# Altium integrated library Altera Cyclone III.IntLib: 225 symbols (part 44 of 50)

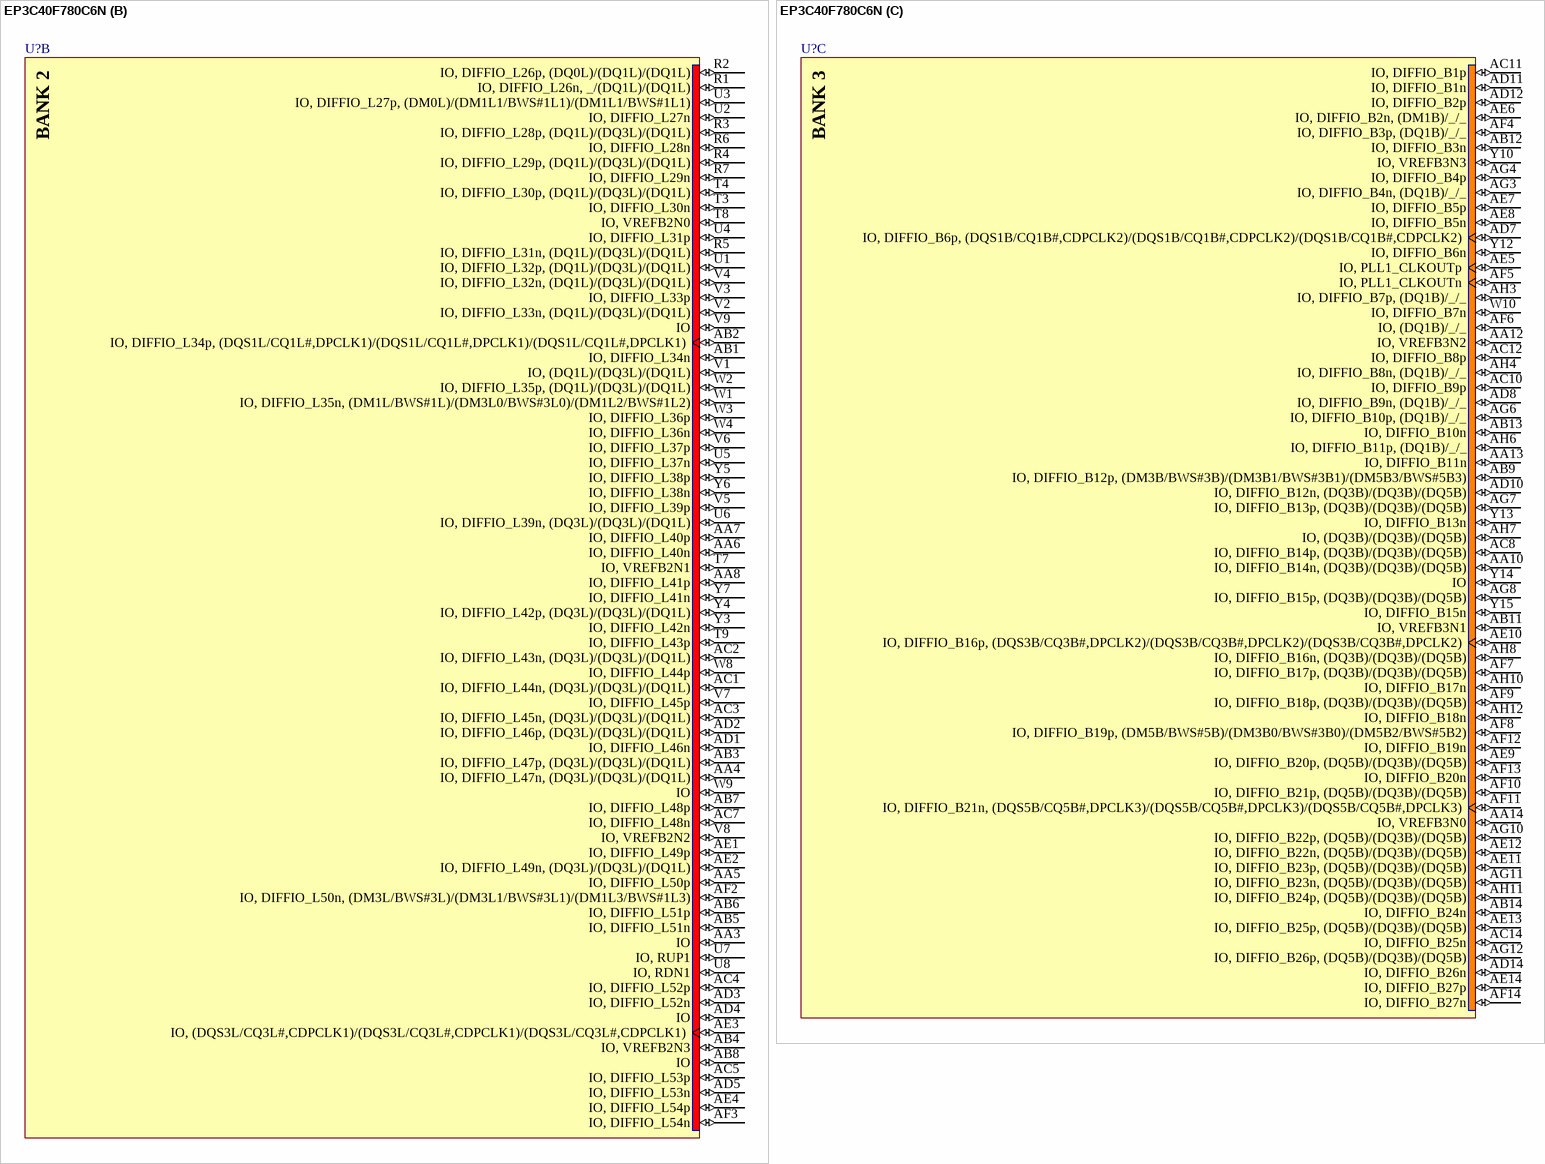
[diagram p210: symbol EP3C40F780C6N]

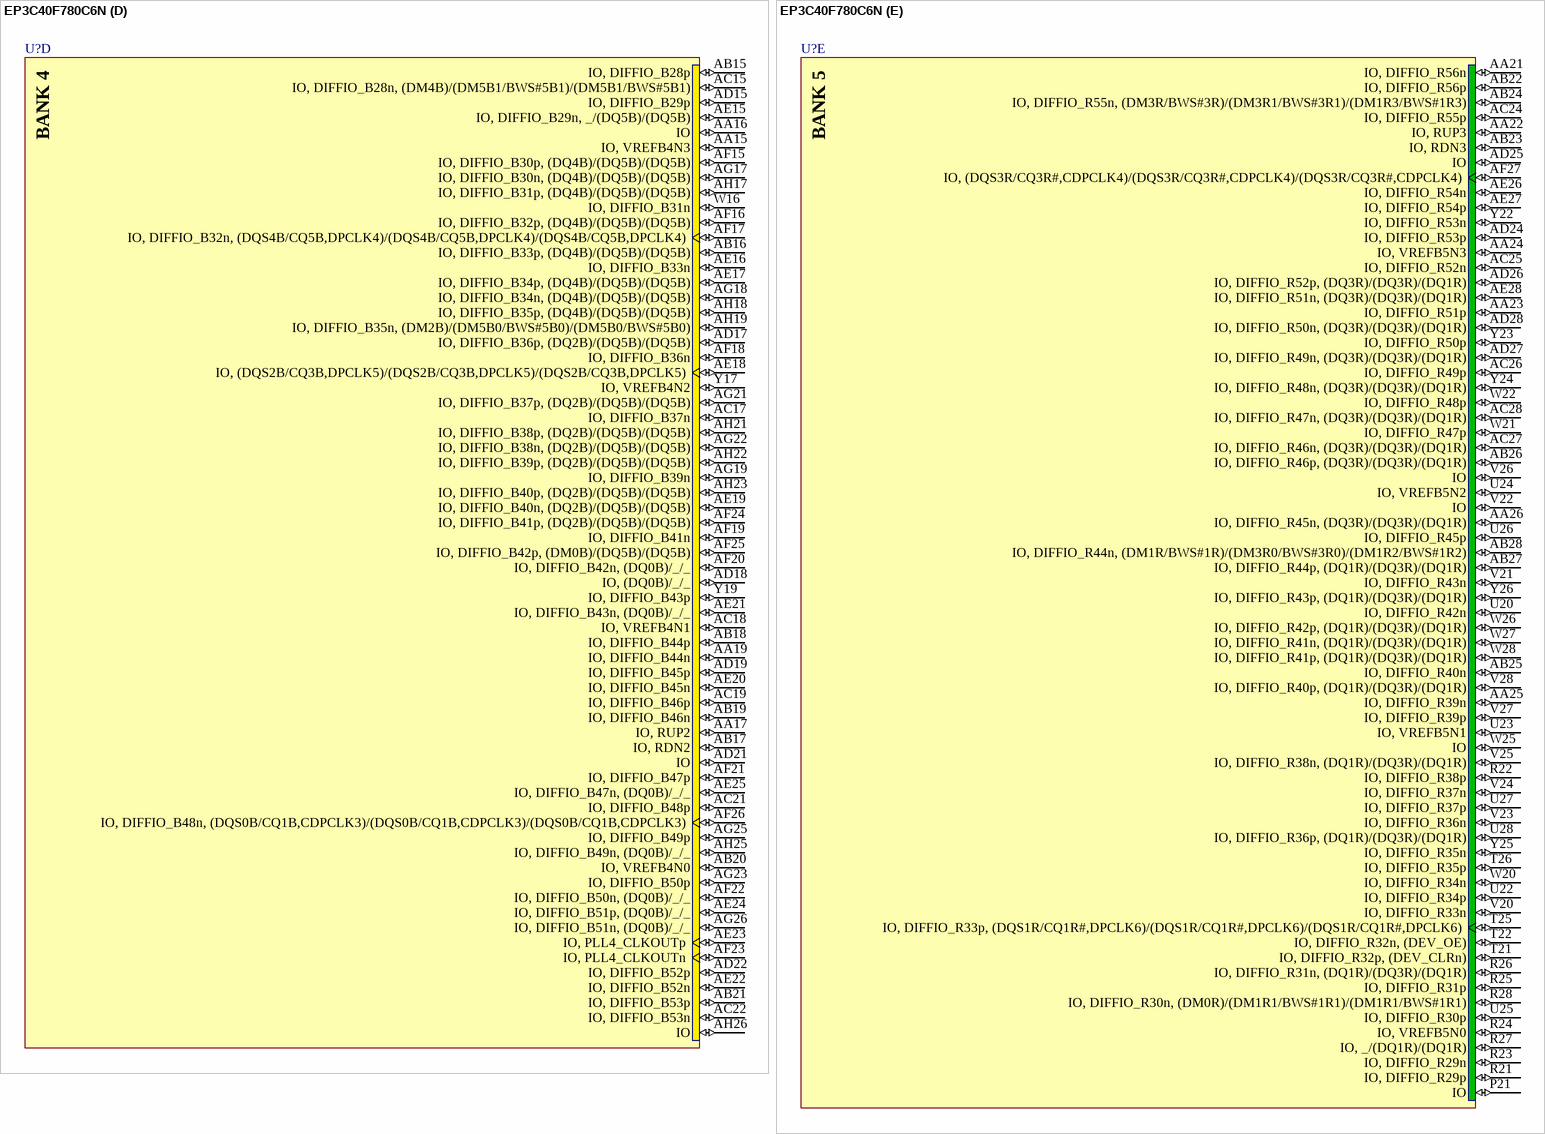
[diagram p211: symbol EP3C40F780C6N]

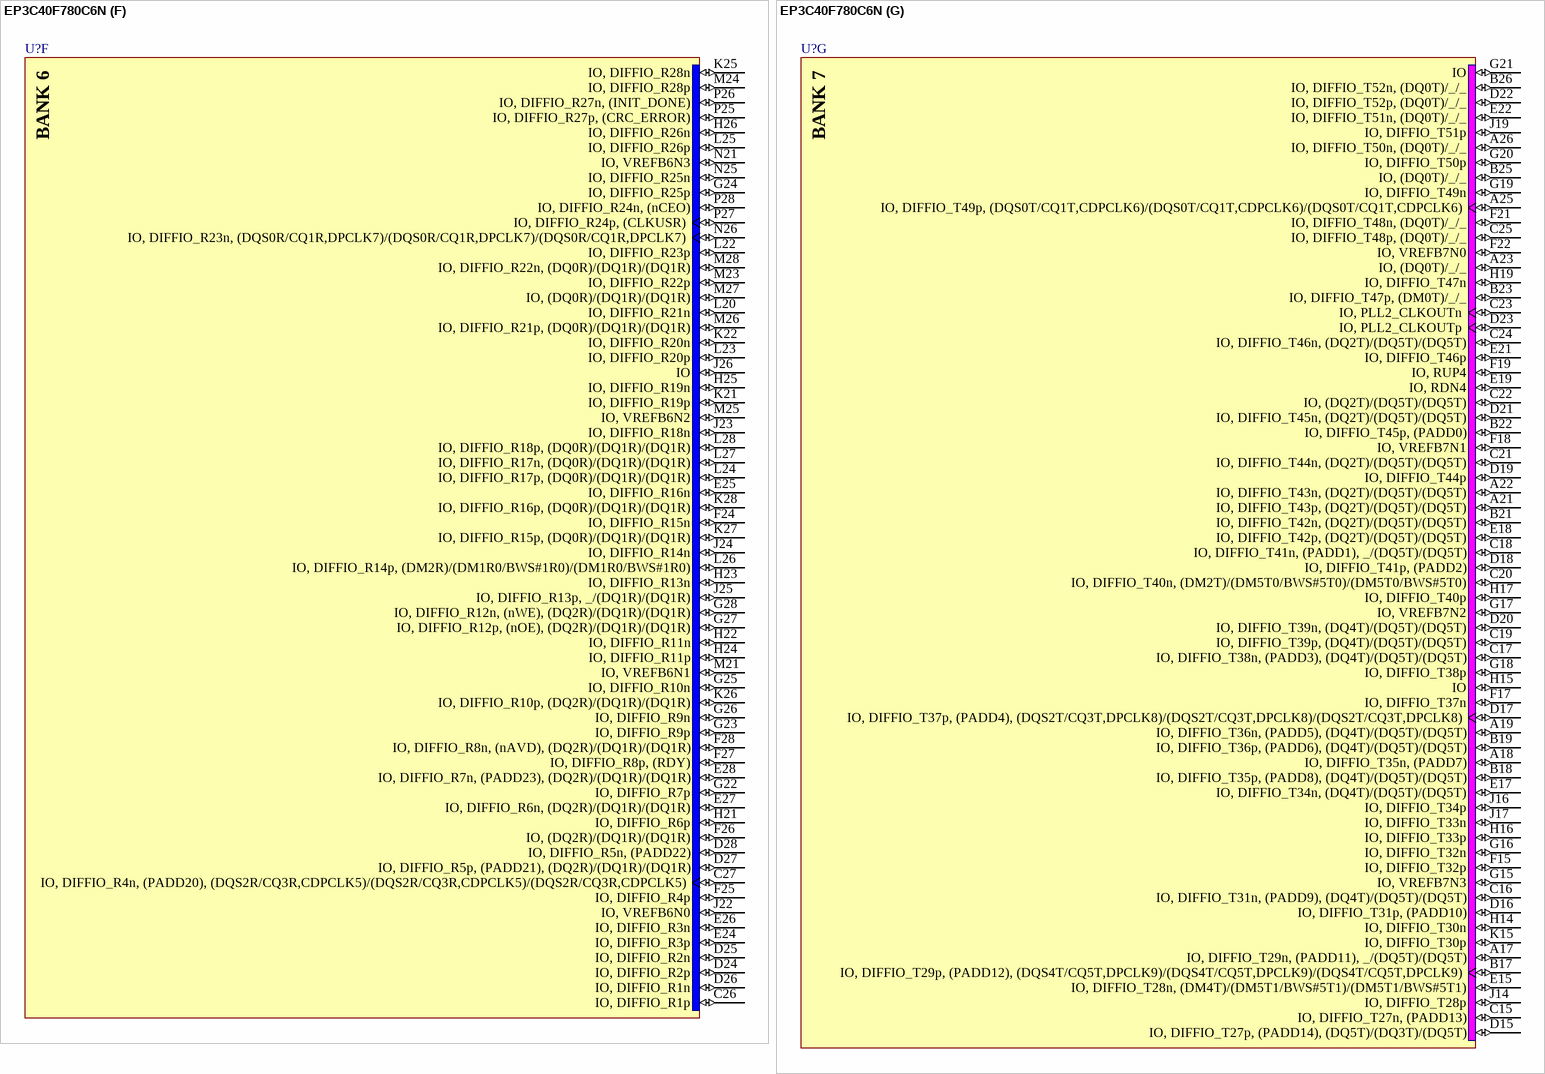
[diagram p212: symbol EP3C40F780C6N]

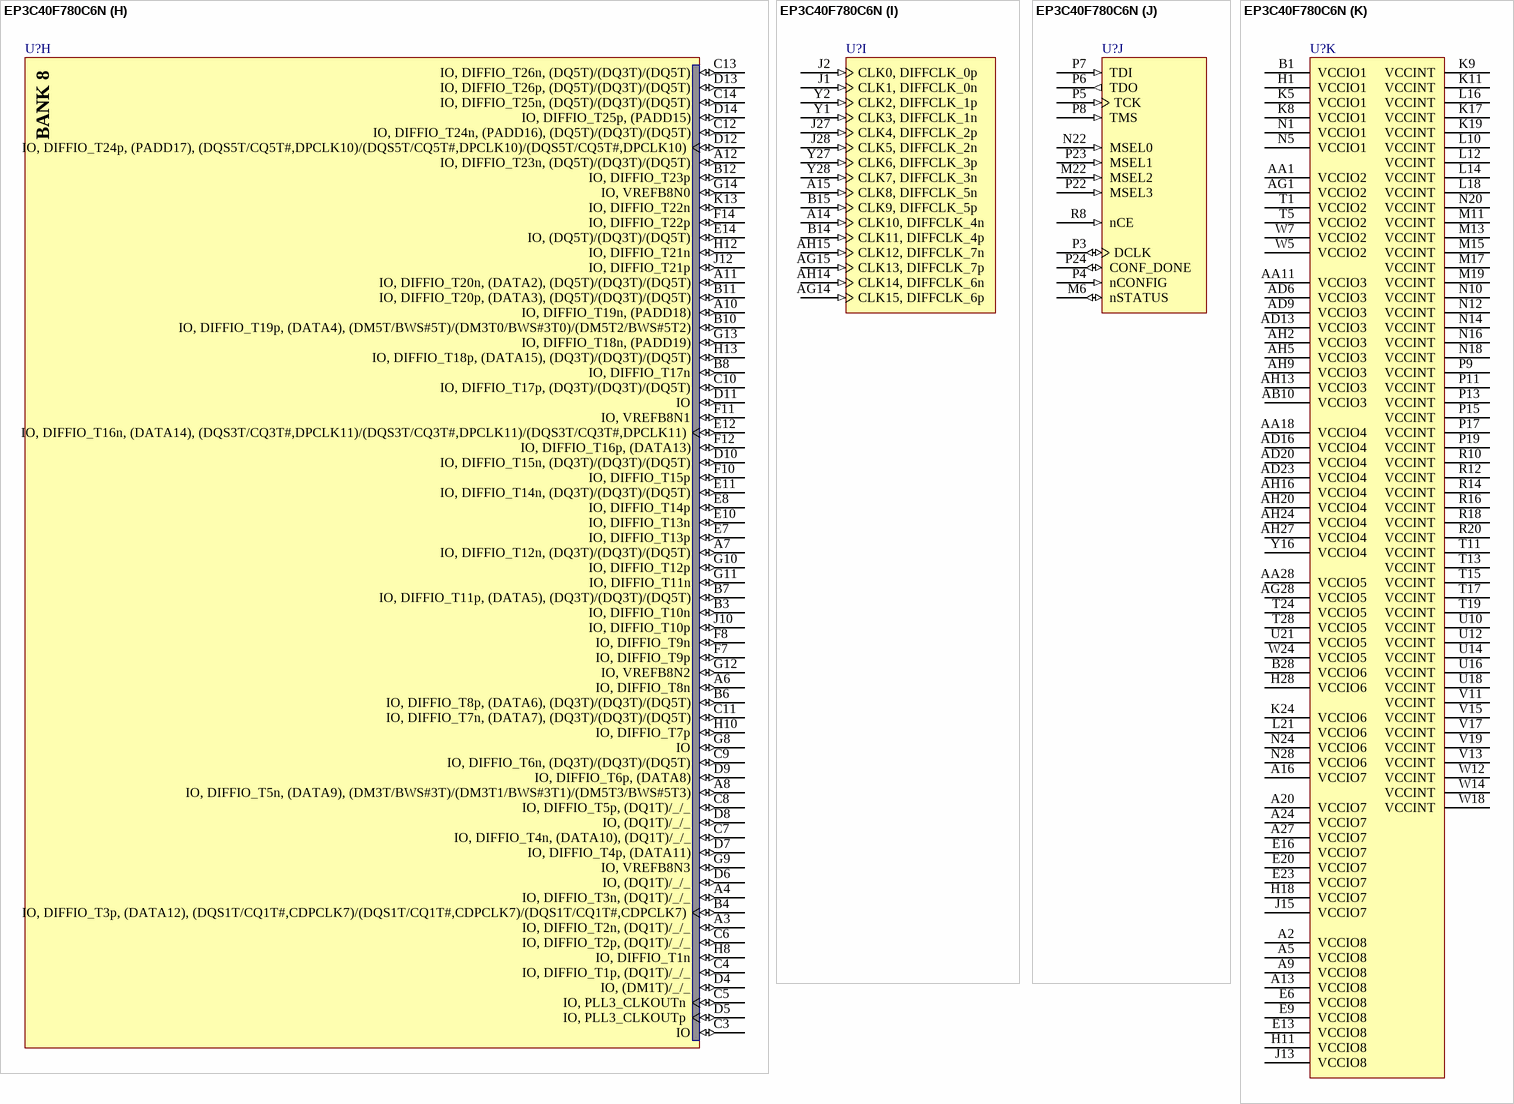
[diagram p213: symbol EP3C40F780C6N]

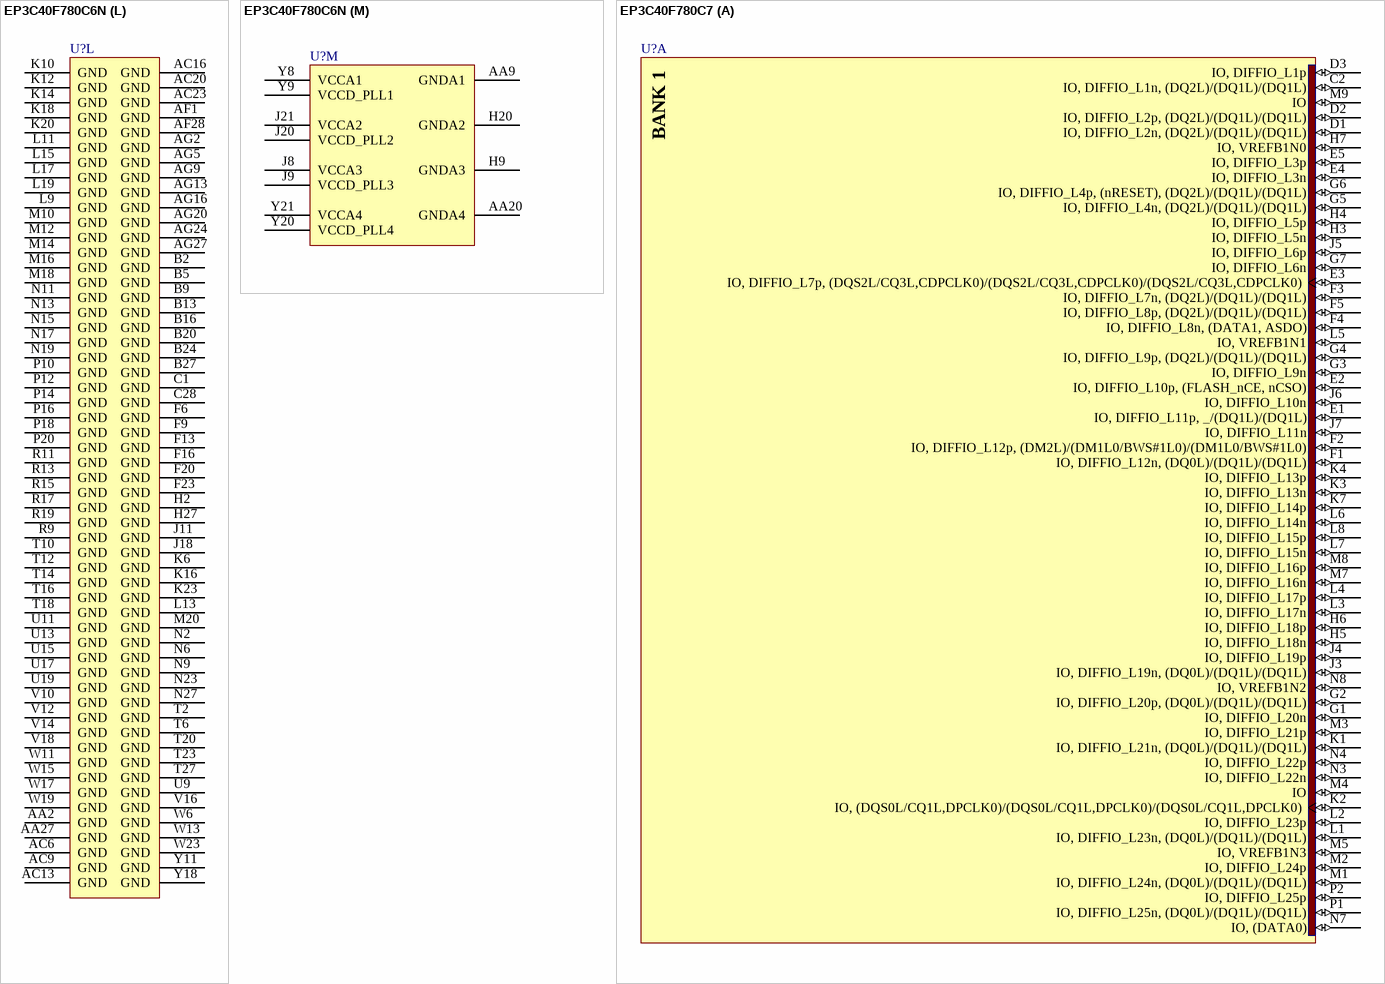
[diagram p214: symbols EP3C40F780C6N to EP3C40F780C7]